# EAGLE library part GBCONN (library gameboy)
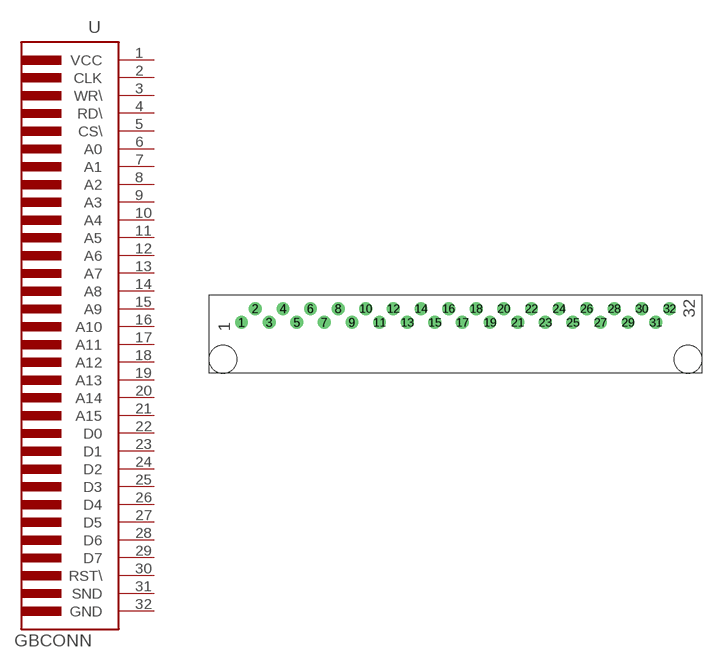
[diagram p1: symbol with the pads of GBCONN; footprint GBCONN]

Designator prefix -

## GBCONN  [GBCONN]
1  VCC  pwr
2  CLK  out
3  WR\  out
4  RD\  out
5  CS\  out
6  A0  out
7  A1  out
8  A2  out
9  A3  out
10  A4  out
11  A5  out
12  A6  out
13  A7  out
14  A8  out
15  A9  out
16  A10  out
17  A11  out
18  A12  out
19  A13  out
20  A14  out
21  A15  out
22  D0
23  D1
24  D2
25  D3
26  D4
27  D5
28  D6
29  D7
30  RST\
31  SND
32  GND  pwr

## Footprint GBCONN (pad centres in mm)
drill 0.813 pad 1.397 round: 1 -22.86,1.27; 2 -21.36,2.77; 3 -19.86,1.27; 4 -18.36,2.77; 5 -16.86,1.27; 6 -15.36,2.77; 7 -13.86,1.27; 8 -12.36,2.77; 9 -10.86,1.27; 10 -9.36,2.77; 11 -7.86,1.27; 12 -6.36,2.77; 13 -4.86,1.27; 14 -3.36,2.77; 15 -1.86,1.27; 16 -0.36,2.77; 17 1.14,1.27; 18 2.64,2.77; 19 4.14,1.27; 20 5.64,2.77; 21 7.14,1.27; 22 8.64,2.77; 23 10.14,1.27; 24 11.64,2.77; 25 13.14,1.27; 26 14.64,2.77; 27 16.14,1.27; 28 17.64,2.77; 29 19.14,1.27; 30 20.64,2.77; 31 22.14,1.27; 32 23.64,2.77
hole 3 at 25.64,-2.73
hole 3 at -24.86,-2.73